# EAGLE library part OPA4192IPWR (library OPA4192IPWR)
Low-Noise, Low Quiescent Current, 36V RRI/O Precision Op Amps, E-Trim Series Source: Datasheet <http://www.ti.com/lit/gpn/OPA4192>
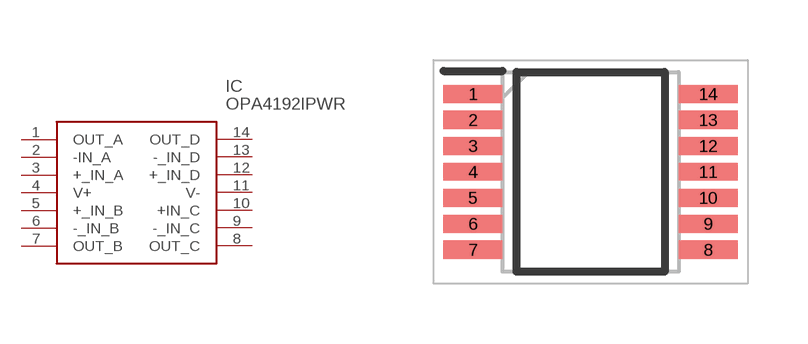
[diagram p0: symbol with the pads of SOP65P640X120-14N; footprint SOP65P640X120-14N]

Designator prefix IC

## OPA4192IPWR (Description: Low-Noise, Low Quiescent Current, 36V RRI/O Precision Op Amps, E-Trim Series; Height: 1.2mm; Manufacturer_Name: Texas Instruments; Manufacturer_Part_Number: OPA4192IPWR; Mouser_Part_Number: 595-OPA4192IPWR; Mouser_Price-Stock: https://www.mouser.co.uk/ProductDetail/Texas-Instruments/OPA4192IPWR?qs=VymPLiRQZIQME3r0jgSK9g%3D%3D)  [SOP65P640X120-14N]
1  OUT_A
2  -IN_A
3  +_IN_A
4  V+
5  +_IN_B
6  -_IN_B
7  OUT_B
8  OUT_C
9  -_IN_C
10  +IN_C
11  V-
12  +_IN_D
13  -_IN_D
14  OUT_D

## Footprint SOP65P640X120-14N (pad centres in mm)
PW (R-PDSO-G14)
smd 1.475 x 0.45: 1 -2.938,1.95; 2 -2.938,1.3; 3 -2.938,0.65; 4 -2.938,0; 5 -2.938,-0.65; 6 -2.938,-1.3; 7 -2.938,-1.95; 8 2.938,-1.95; 9 2.938,-1.3; 10 2.938,-0.65; 11 2.938,0; 12 2.938,0.65; 13 2.938,1.3; 14 2.938,1.95